# EAGLE library part REZZONICS_LMV358 (library DMFX-1_v1.0)
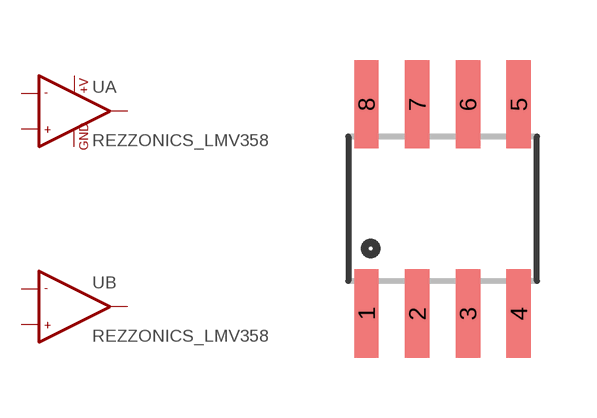
[diagram p12: symbol with the pads of REZZONICS_SO08; footprint REZZONICS_SO08]

Designator prefix U; gates A=REZZONICS_OPAMP_2 B=REZZONICS_OPAMP_2_1

## REZZONICS_LMV358  [REZZONICS_SO08]
1  A:OUT1  out
2  A:-IN1  in
3  A:+IN1  in
4  A:GND  pwr
5  B:+IN2  in
6  B:-IN2  in
7  B:OUT2  out
8  A:+V  pwr

## Footprint REZZONICS_SO08 (pad centres in mm)
Small Outline Package Fits JEDEC packages (narrow SOIC-8)
smd 0.61 x 2.21: 1 -1.905,-2.616; 2 -0.635,-2.616; 3 0.635,-2.616; 4 1.905,-2.616; 5 1.905,2.616; 6 0.635,2.616; 7 -0.635,2.616; 8 -1.905,2.616